# Altium footprint library transformerLib.PcbLib: 5 footprints
Each footprint in its own frame and in the unit in brackets; x right, y up, seen from the top. Pads: shape width x height; smd on the part's side, far side on the other; paste and mask are expansions set on the pad; w line width, h text height; cw(c..) or ccw(c..) is an arc to the next point about the centre after c.
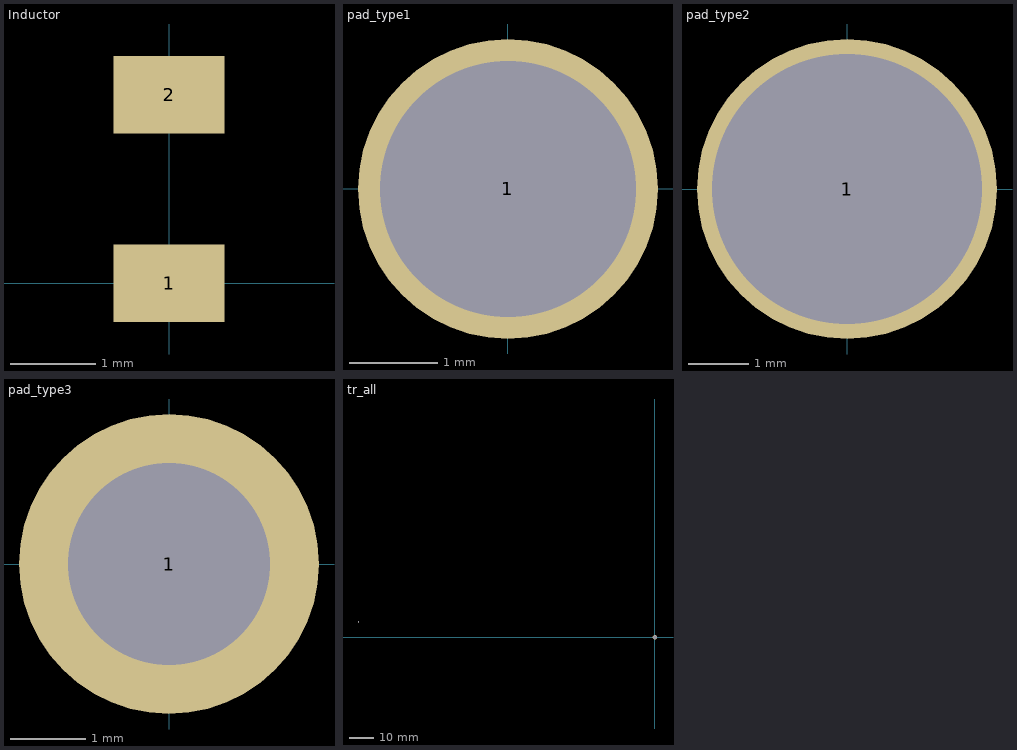
[diagram p0: the footprints below, top view; thin cyan lines are the x and y axes]

## Inductor [mm]
pads (2):
  rect 1.3x0.9 smd: 1(0,0) 2(0,2.2)

## pad_type1 [mm]
pads (1):
  round 3.4 hole 2.9: 1(0,0)

## pad_type2 [mm]
pads (1):
  round 5 hole 4.5: 1(0,0)

## pad_type3 [mm]
pads (1):
  round 4 hole 2.7: 1(0,0)

## tr_all [mm]
pads (2):
  round 1.8 hole 1.5: 1(0,0)
  round 0.5 hole 0.3: 2(-119.671,6.272)
Mid-Layer 1:
  region: 193 vertices and 0 holes, not listed, extent -119.903,-1.251 1.251,60.412